# Altium footprint library STM32G4_DRV8301_hardware.PcbLib: 61 footprints (part 2 of 4)
Each footprint in its own frame and in the unit in brackets; x right, y up, seen from the top. Pads: shape width x height; smd on the part's side, far side on the other; paste and mask are expansions set on the pad; w line width, h text height; cw(c..) or ccw(c..) is an arc to the next point about the centre after c.
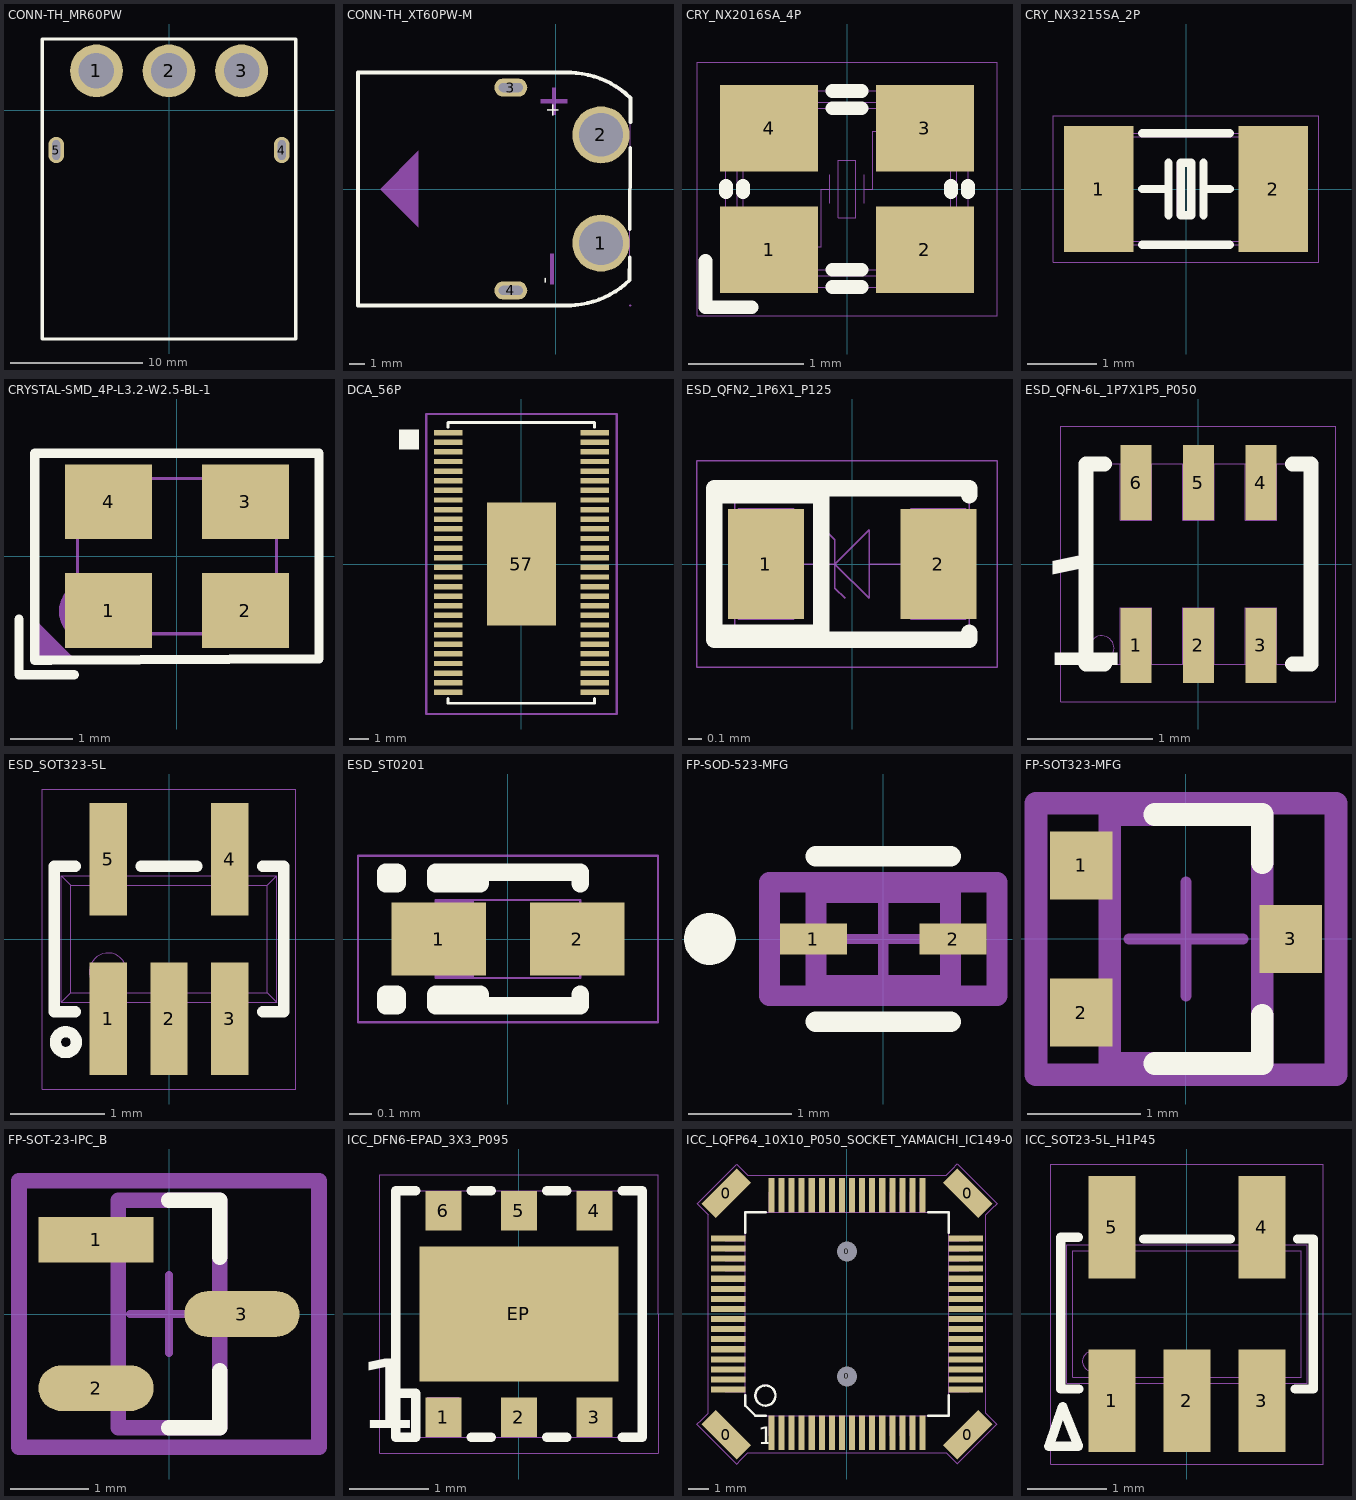
[diagram p1: the footprints below, top view; thin cyan lines are the x and y axes]

## CONN-TH_MR60PW [mm]
pads (5):
  round 4 hole 2.7: 1(-5.5,3) 2(0,3) 3(5.5,3)
  oval 1.2x2 hole 0.6 slot 1.5 at 90 deg: 4(8.55,-3) 5(-8.55,-3)
Top Overlay:
  lines w0.254: -9.6,2.864 -9.6,5.413 -9.398,5.413 9.6,5.413 9.6,3 9.6,-17.32 -9.6,-17.32 -9.6,3

## CONN-TH_XT60PW-M [mm]
pads (4):
  round 3.8 hole 2.9 paste-2539.97 mask+0.05: 1(3,-3.6) 2(3,3.6)
  oval 2.2x1.2 hole 0.6 slot 1.6 at 0 deg paste-2539.97 mask+0.05: 3(-3,6.75) 4(-3,-6.75)
Top Overlay:
  lines w0.254: 0.889,-7.747 ccw(c0.746,-1.749) 4.917,-6.062 ; 0.937,7.747 cw(c0.794,1.749) 4.965,6.062 4.956,4.441 ; 1,-7.75 -13.166,-7.75 -13.166,7.75 1,7.75 ; 4.902,-5.994 4.909,-4.544 ; 4.919,-2.676 4.947,2.738
  text "+" at 0.501,4.75 h1.5
  text "-" at -0.062,-6.299 h1.5
Mechanical 6:
  region: -0.381,-4.318 -0.127,-4.318 -0.127,-6.35 -0.381,-6.35
  region: -0.254,6.731 0,6.731 0,5.969 0.762,5.969 0.762,5.715 0,5.715 0,4.953 -0.254,4.953 -0.254,5.715 -1.016,5.715 -1.016,5.969 -0.254,5.969
  region: -9.144,2.54 -9.144,-2.54 -11.684,0
Mechanical 15:
  region: -2.4,-6.55 -2.4,-6.95 -3.6,-6.95 -3.6,-6.55
  region: -2.4,6.95 -2.4,6.55 -3.6,6.55 -3.6,6.95
  region: 4,-3.6 4,-3.468 3.932,-3.214 3.8,-2.986 3.614,-2.8 3.386,-2.668 3.132,-2.6 2.868,-2.6 2.614,-2.668 2.386,-2.8 2.2,-2.986 2.068,-3.214 2,-3.468 2,-3.6 2,-3.732 2.068,-3.986 2.2,-4.214 2.386,-4.4 2.614,-4.532 2.868,-4.6 3.132,-4.6 3.386,-4.532 3.614,-4.4 3.8,-4.214 3.932,-3.986 4,-3.732
  region: 4,3.6 4,3.732 3.932,3.986 3.8,4.214 3.614,4.4 3.386,4.532 3.132,4.6 2.868,4.6 2.614,4.532 2.386,4.4 2.2,4.214 2.068,3.986 2,3.732 2,3.6 2,3.468 2.068,3.214 2.2,2.986 2.386,2.8 2.614,2.668 2.868,2.6 3.132,2.6 3.386,2.668 3.614,2.8 3.8,2.986 3.932,3.214 4,3.468
  region: 5.013,-7.747 5.012,-7.723 4.977,-7.69 4.929,-7.69 4.894,-7.723 4.893,-7.747 4.894,-7.771 4.929,-7.805 4.977,-7.805 5.012,-7.771
  lines w0.051: -13.166,-7.747 -13.166,7.747 1.016,7.747 1.778,7.62 2.794,7.366 3.81,6.858 4.826,6.096 4.953,5.969 4.902,-5.994 4.699,-6.223 3.937,-6.858 3.175,-7.239 2.159,-7.493 1.143,-7.747 -13.166,-7.747

## CRY_NX2016SA_4P [mm]
pads (4):
  rect 0.85x0.75 smd mask+0.05: 1(-0.675,-0.525) 2(0.675,-0.525) 3(0.675,0.525) 4(-0.675,0.525)
Top Overlay:
  lines w0.12: -1.225,-0.625 -1.225,-1.025 -0.825,-1.025 ; -1.05,-0.025 -1.05,0.025 ; -0.9,-0.025 -0.9,0.025 ; -0.125,-0.85 0.125,-0.85 ; -0.125,-0.7 0.125,-0.7 ; -0.125,0.7 0.125,0.7 ; -0.125,0.85 0.125,0.85 ; 0.9,-0.025 0.9,0.025 ; 1.05,-0.025 1.05,0.025
Mechanical 14:
  lines w0.01: -0.9,-0.25 -0.35,-0.25 -0.35,-0.7 ; -0.9,0.25 -0.35,0.25 -0.35,0.7 ; -0.325,-0.5 -0.225,-0.5 -0.225,0 -0.15,0 ; -0.15,-0.125 -0.15,0.125 ; 0.15,-0.125 0.15,0.125 ; 0.15,0 0.225,0 0.225,0.5 0.325,0.5 ; 0.35,-0.7 0.35,-0.25 0.9,-0.25 ; 0.35,0.7 0.35,0.25 0.9,0.25 ; -1.05,-0.7 cw(c-1.05,-0.85) -0.9,-0.85 0.9,-0.85 cw(c1.05,-0.85) 1.05,-0.7 1.05,0.7 cw(c1.05,0.85) 0.9,0.85 -0.9,0.85 cw(c-1.05,0.85) -1.05,0.7 -1.05,-0.7 ; -0.95,-0.6 ccw(c-0.8,-0.6) -0.8,-0.75 0.8,-0.75 ccw(c0.8,-0.6) 0.95,-0.6 0.95,0.6 ccw(c0.8,0.6) 0.8,0.75 -0.8,0.75 ccw(c-0.8,0.6) -0.95,0.6 -0.95,-0.6 ; -0.9,-0.6 ccw(c-0.8,-0.6) -0.8,-0.7 0.8,-0.7 ccw(c0.8,-0.6) 0.9,-0.6 0.9,0.6 ccw(c0.8,0.6) 0.8,0.7 -0.8,0.7 ccw(c-0.8,0.6) -0.9,0.6 -0.9,-0.6 ; -0.075,-0.25 0.075,-0.25 0.075,0.25 -0.075,0.25 -0.075,-0.25
  text "'.Designator'" at -0.885,-2 h1.5
  text "4" at -0.75,0.325 h1.5
  text "3" at 0.525,0.325 h1.5
  text "2" at 0.525,-0.65 h1.5
  text "1" at -0.725,-0.65 h1.5
Mechanical 16:
  lines w0.01: -1.3,-1.1 -1.3,1.1 1.3,1.1 1.3,-1.1 -1.3,-1.1
3D body: height 0.5, standoff 0, extent -1.05,-0.85 1.05,0.85
3D body: height 0.51, standoff 0.5, extent -0.9,-0.7 -0.575,-0.375
3D body "NX2016.STEP": height 0.7, standoff 0, extent -1,-0.8 1,0.8

## CRY_NX3215SA_2P [mm]
pads (2):
  rect 1x1.8 smd mask+0.05: 1(-1.25,0) 2(1.25,0)
Top Overlay:
  lines w0.12: -0.625,-0.8 0.625,-0.8 ; -0.625,0 -0.25,0 ; -0.625,0.8 0.625,0.8 ; -0.25,-0.375 -0.25,0.375 ; 0.25,-0.375 0.25,0.375 ; 0.25,0 0.625,0 ; -0.075,-0.375 0.075,-0.375 0.075,0.375 -0.075,0.375 -0.075,-0.375
Mechanical 14:
  lines w0.01: -0.625,0 -0.25,0 ; -0.25,-0.375 -0.25,0.375 ; 0.25,-0.375 0.25,0.375 ; 0.25,0 0.625,0 ; -1.6,0.625 cw(c-1.475,0.625) -1.475,0.75 1.475,0.75 cw(c1.475,0.625) 1.6,0.625 1.6,-0.625 ; -1.6,0.625 -1.6,0.625 ; -1.6,0.625 -1.6,-0.625 ccw(c-1.475,-0.625) -1.475,-0.75 1.475,-0.75 ccw(c1.475,-0.625) 1.6,-0.625 ; 1.6,-0.625 1.6,-0.625 ; -1.65,-0.7 -1.55,-0.8 1.55,-0.8 1.65,-0.7 1.65,0.7 1.55,0.8 -1.55,0.8 -1.65,0.7 -1.65,-0.7 ; -0.125,-0.375 -0.125,0.375 0.125,0.375 0.125,-0.375 -0.125,-0.375
  text "'.Designator'" at -2,0 h1.5
Mechanical 16:
  lines w0.01: -1.9,-1.05 -1.9,1.05 1.9,1.05 1.9,-1.05 -1.9,-1.05
3D body "NX3215SA.STEP": height 0.78, standoff 0, extent -1.507,-0.73 1.507,0.784
3D body: height 0.9, standoff 0, extent -1.655,-0.805 1.655,0.805

## CRYSTAL-SMD_4P-L3.2-W2.5-BL-1 [mm]
pads (4):
  rect 1.4x1.2 smd: 1(-1.1,-0.875) 2(1.1,-0.875) 3(1.1,0.875) 4(-1.1,0.875)
Top Overlay:
  lines w0.152: -2.54,-1.016 -2.54,-1.778 -2.54,-1.905 -1.651,-1.905 ; -2.286,-1.679 -2.03,-1.679 2.286,-1.651 2.286,0 2.286,1.651 -2.286,1.651 -2.286,-1.679
Mechanical 6:
  circle w0.5: c-1.397,-0.889 r0.25
  region: -2.286,-1.016 -2.286,-1.651 -1.651,-1.651
Mechanical 15:
  region: 0.45,-0.35 1.5,-0.35 1.5,-1.15 0.45,-1.15
  region: -1.5,-0.35 -0.45,-0.35 -0.45,-1.15 -1.5,-1.15
  region: -1.5,1.15 -0.45,1.15 -0.45,0.35 -1.5,0.35
  region: 0.45,1.15 1.5,1.15 1.5,0.35 0.45,0.35
  region: -1.54,-1.25 -1.541,-1.226 -1.576,-1.193 -1.624,-1.193 -1.659,-1.226 -1.66,-1.25 -1.659,-1.274 -1.624,-1.307 -1.576,-1.307 -1.541,-1.274
  lines w0.051: -1.6,-1.25 -1.6,1.25 1.6,1.25 1.6,-1.25 -1.6,-1.25

## DCA_56P [mil]
pads (57):
  rect 58x11 smd mask+2: 1(-150.08,268.98) 2(-150.08,249.3) 3(-150.08,229.61) 4(-150.08,209.91) 5(-150.08,190.21) 6(-150.08,170.51) 7(-150.08,150.81) 8(-150.08,131.11) 9(-150.08,111.41) 10(-150.08,91.71) 11(-150.08,72.01) 12(-150.08,52.31) 13(-150.08,32.61) 14(-150.08,12.91) 15(-150.08,-6.79) 16(-150.08,-26.49) 17(-150.08,-46.19) 18(-150.08,-65.89) 19(-150.08,-85.59) 20(-150.08,-105.29) 21(-150.08,-124.99) 22(-150.08,-144.69) 23(-150.08,-164.39) 24(-150.08,-184.09) 25(-150.08,-203.79) 26(-150.08,-223.49) 27(-150.08,-243.17) 28(-150.08,-262.86) 29(149.92,-262.86) 30(149.92,-243.17) 31(149.92,-223.49) 32(149.92,-203.79) 33(149.92,-184.09) 34(149.92,-164.39) 35(149.92,-144.69) 36(149.92,-124.99) 37(149.92,-105.29) 38(149.92,-85.59) 39(149.92,-65.89) 40(149.92,-46.19) 41(149.92,-26.49) 42(149.92,-6.79) 43(149.92,12.91) 44(149.92,32.61) 45(149.92,52.31) 46(149.92,72.01) 47(149.92,91.71) 48(149.92,111.41) 49(149.92,131.11) 50(149.92,150.81) 51(149.92,170.51) 52(149.92,190.21) 53(149.92,209.91) 54(149.92,229.61) 55(149.92,249.3) 56(149.92,268.98)
  rect 141.73x251.97 smd: 57(0.02,0.01)
Top Overlay:
  region: -250,235 -210,235 -210,275 -250,275
  lines w5.91: -150,-275 -150,-285 150,-285 150,-275 ; -150,280 -150,290 150,290 150,280
Mechanical 5:
  lines w5: -195.08,-307.09 -195.08,307.09 ; -195,-307.05 195,-307.05 ; -195,307.13 195,307.13 ; 195.08,-307.09 195.08,307.09
  text ".Designator" at -73,-20 h59.06
  text "*" at -109.45,295.67 h59.06

## ESD_QFN2_1P6X1_P125 [mm]
pads (2):
  rect 0.55x0.8 smd mask+0.05: 1(-0.625,0) 2(0.625,0)
Top Overlay:
  lines w0.12: -1,-0.5 -0.85,-0.5 ; -1,0.5 -0.85,0.5 ; -0.825,-0.55 -1,-0.55 -1,0.55 -0.85,0.55 ; -0.225,-0.55 -0.225,0.55 ; -0.225,-0.5 -0.85,-0.5 ; -0.225,0.475 -0.25,0.5 -0.85,0.5 ; 0.85,-0.5 0.85,-0.55 -0.85,-0.55 -0.85,-0.5 ; 0.85,0.5 0.85,0.55 -0.85,0.55 ; -0.85,0.5 -0.85,0.55
Mechanical 14:
  lines w0.01: -0.4,0 -0.125,0 ; -0.2,0.25 -0.125,0.175 -0.125,-0.175 ; -0.05,-0.25 -0.125,-0.175 ; 0.125,0 0.4,0 ; -0.125,-0.175 -0.125,-0.175 ; -0.125,0 0.125,0.25 0.125,-0.25 ; -0.125,0 0.125,-0.25 ; -0.125,0 -0.125,0 ; 0.125,-0.25 0.125,-0.25 ; -0.85,-0.55 0.85,-0.55 0.85,0.55 -0.85,0.55 -0.85,-0.55 ; -0.825,-0.4 -0.825,0.4 -0.425,0.4 -0.425,-0.4 -0.825,-0.4 ; 0.425,-0.4 0.825,-0.4 0.825,0.4 0.425,0.4 0.425,-0.4
  text "'.Designator'" at -2.032,-0.508 h1.5
  text "2" at 0.325,-0.5 h1.5
  text "1" at -0.825,-0.475 h1.5
Mechanical 16:
  lines w0.01: -1.125,-0.75 -1.125,0.75 1.05,0.75 1.05,-0.75 -1.125,-0.75
3D body: height 0.61, standoff 0.6, extent -0.825,-0.2 -0.425,0.2
3D body: height 0.6, standoff 0, extent -0.855,-0.555 0.855,0.555

## ESD_QFN-6L_1P7X1P5_P050 [mm]
pads (6):
  rect 0.25x0.6 smd mask+0.05: 1(-0.5,-0.65) 2(0,-0.65) 3(0.5,-0.65) 4(0.5,0.65) 5(0,0.65) 6(-0.5,0.65)
Top Overlay:
  lines w0.12: -0.75,-0.8 -0.9,-0.8 -0.9,0.8 -0.75,0.8 ; 0.75,-0.8 0.9,-0.8 0.9,0.8 0.75,0.8
  text "1" at -1.3,-1.1 h1.5
Mechanical 14:
  circle w0.01: c-0.775,-0.675 r0.1
  lines w0.01: -0.625,-0.8 -0.625,-0.35 -0.375,-0.35 -0.375,-0.8 ; -0.625,0.8 -0.625,0.35 -0.375,0.35 -0.375,0.8 ; -0.125,-0.8 -0.125,-0.35 0.125,-0.35 0.125,-0.8 ; -0.125,0.8 -0.125,0.35 0.125,0.35 0.125,0.8 ; 0.375,-0.8 0.375,-0.35 0.625,-0.35 0.625,-0.8 ; 0.375,0.8 0.375,0.35 0.625,0.35 0.625,0.8 ; -0.9,-0.8 -0.9,0.8 0.9,0.8 0.9,-0.8 -0.9,-0.8
  text "1" at -0.575,-0.75 h1.5
  text "2" at -0.1,-0.75 h1.5
  text "3" at 0.4,-0.75 h1.5
  text "4" at 0.39,0.433 h1.5
  text "5" at -0.1,0.425 h1.5
  text "6" at -0.6,0.425 h1.5
  text "'.Designator'" at -2,-0.5 h1.5
Mechanical 16:
  lines w0.01: -1.1,-1.1 1.1,-1.1 1.1,1.1 -1.1,1.1 -1.1,-1.1
3D body: height 0.56, standoff 0.55, extent -0.724,-0.625 -0.425,-0.325
3D body: height 0.55, standoff 0, extent -0.9,-0.8 0.9,0.8

## ESD_SOT323-5L [mm]
pads (5):
  rect 0.4x1.2 smd mask+0.05: 1(-0.65,-0.85) 2(0,-0.85) 3(0.65,-0.85) 4(0.65,0.85) 5(-0.65,0.85)
Top Overlay:
  circle w0.12: c-1.1,-1.1 r0.112
  lines w0.12: -1,-0.775 -1.225,-0.775 -1.225,0.775 -1,0.775 ; -0.3,0.775 0.3,0.775 ; 1,-0.775 1.225,-0.775 1.225,0.775 1,0.775
Mechanical 14:
  circle w0.01: c-0.65,-0.35 r0.2
  lines w0.01: -0.75,-0.675 -0.75,-1.125 -0.55,-1.125 -0.55,-0.675 ; -0.75,0.675 -0.75,1.125 -0.55,1.125 -0.55,0.675 ; -0.1,-0.675 -0.1,-1.125 0.1,-1.125 0.1,-0.675 ; 0.55,-0.675 0.55,-1.125 0.75,-1.125 0.75,-0.675 ; 0.55,0.675 0.55,1.125 0.75,1.125 0.75,0.675 ; -1.15,-0.675 1.15,-0.675 ; -1.15,-0.675 -1.15,0.675 ; -1.15,-0.675 -1.05,-0.575 ; -1.15,0.675 1.15,0.675 ; -1.15,0.675 -1.05,0.575 ; -1.05,-0.575 1.05,-0.575 ; -1.05,-0.575 -1.05,0.575 ; -1.05,0.575 1.05,0.575 ; 1.05,-0.575 1.05,0.575 ; 1.05,-0.575 1.15,-0.675 ; 1.05,0.575 1.15,0.675 ; 1.15,-0.675 1.15,0.675
  text "'.Designator'" at -2,-0.5 h1.5
Mechanical 16:
  lines w0.01: -1.35,-1.6 -1.35,1.6 1.35,1.6 1.35,-1.6 -1.35,-1.6
3D body "SOT323-5L.STEP": height 1, standoff 0, extent -1.05,-1.051 1.05,1.051
3D body: height 1.1, standoff 0, extent -1.15,-0.675 1.15,0.675

## ESD_ST0201 [mm]
pads (2):
  rect 0.425x0.33 smd mask+0.05: 1(-0.312,0) 2(0.312,0)
Top Overlay:
  lines w0.08: -0.325,-0.275 -0.125,-0.275 ; -0.325,0.275 -0.125,0.275 ; -0.125,-0.3 -0.125,-0.25 -0.325,-0.25 -0.325,-0.3 0.325,-0.3 0.325,-0.25 ; -0.125,0.3 -0.125,0.25 -0.325,0.25 -0.325,0.3 0.325,0.3 0.325,0.25 ; -0.55,-0.3 -0.5,-0.3 -0.5,-0.25 -0.55,-0.25 -0.55,-0.3 ; -0.55,0.25 -0.55,0.3 -0.5,0.3 -0.5,0.25 -0.55,0.25
Mechanical 14:
  rectangle: -0.327,-0.175 -0.152,0.175
  lines w0.01: -0.325,-0.175 0.325,-0.175 0.325,0.175 -0.325,0.175 -0.325,-0.175
  text "K" at -0.575,-0.15 h1.5
  text "'.Designator'" at -1.645,-0.54 h1.5
Mechanical 16:
  lines w0.01: -0.675,-0.375 0.675,-0.375 0.675,0.375 -0.675,0.375 -0.675,-0.375
3D body "0201.STEP": height 0.34, standoff 0, extent -0.341,-0.165 0.339,0.165
3D body: height 0.33, standoff 0, extent -0.325,-0.175 0.325,0.175

## FP-SOD-523-MFG [mm]
pads (2):
  rect 0.65x0.3 smd paste+0 mask+0: 1(-0.675,0) 2(0.675,0)
Top Overlay:
  circle w0.25: c-1.675,0 r0.125
  lines w0.2: -0.65,-0.8 0.65,-0.8 ; -0.65,0.8 0.65,0.8
Top 3D Body:
  lines w0.2: -0.65,-0.45 -0.65,0.45 0.65,0.45 0.65,-0.45 -0.65,-0.45
Top Courtyard:
  lines w0.2: -1.1,-0.55 -1.1,0.55 1.1,0.55 1.1,-0.55 -1.1,-0.55
Top Assembly:
  lines w0.2: -1.1,-0.55 -1.1,0.55 1.1,0.55 1.1,-0.55 -1.1,-0.55
  text ".Designator" at 0,0.095 h1.5
Top Component Center:
  lines w0.1: -0.5,0 0.5,0 ; 0,-0.5 0,0.5
3D body "Diode_STMicroelectronics_BAT41KFILM_eec.STEP": height 0.7, standoff 0, extent -0.811,-0.406 0.789,0.394

## FP-SOT323-MFG [mm]
pads (3):
  rect 0.55x0.6 smd paste-1000 mask+0: 1(-0.925,0.65) 2(-0.925,-0.65) 3(0.925,0)
Top Overlay:
  lines w0.2: -0.275,-1.1 0.675,-1.1 0.675,-0.675 ; -0.275,1.1 0.675,1.1 0.675,0.675
Top Paste:
  rectangle: -1.2,0.4 -0.65,0.9
  rectangle: -1.2,-0.9 -0.65,-0.4
  rectangle: 0.65,-0.25 1.2,0.25
Top 3D Body:
  lines w0.2: -0.675,-1.1 0.675,-1.1 0.675,1.1 -0.675,1.1 -0.675,-1.1
Top Courtyard:
  lines w0.2: -1.325,-1.2 1.325,-1.2 1.325,1.2 -1.325,1.2 -1.325,-1.2
Top Assembly:
  lines w0.2: -1.325,-1.2 1.325,-1.2 1.325,1.2 -1.325,1.2 -1.325,-1.2
  text ".Designator" at 0,0.095 h1.5
Top Component Center:
  lines w0.1: -0.5,0 0.5,0 ; 0,-0.5 0,0.5
3D body "Diode_Nexperia_PESD1CAN-UX_eec.STEP": height 1.13, standoff 0, extent -1.075,-1.037 1.075,1.062

## FP-SOT-23-IPC_B [mm]
pads (3):
  rect 1.474x0.585 smd paste+0 mask+0: 1(-0.935,0.95)
  rrect100% 1.474x0.585 smd paste+0 mask+0: 2(-0.935,-0.95) 3(0.935,0)
Top Overlay:
  lines w0.2: 0,-1.46 0.65,-1.46 0.65,-0.73 ; 0,1.46 0.65,1.46 0.65,0.73
Top 3D Body:
  lines w0.2: -0.65,-1.46 -0.65,1.46 0.65,1.46 0.65,-1.46 -0.65,-1.46
Top Courtyard:
  lines w0.2: -1.922,-1.71 -1.922,1.71 1.922,1.71 1.922,-1.71 -1.922,-1.71
Top Assembly:
  lines w0.2: -1.922,-1.71 -1.922,1.71 1.922,1.71 1.922,-1.71 -1.922,-1.71
  text ".Designator" at 0,0.095 h1.5
Top Component Center:
  lines w0.1: -0.5,0 0.5,0 ; 0,-0.5 0,0.5
3D body "Diode_Micro_Commercial_Co_ESDA6V1L-TP_eec.STEP": height 1.25, standoff 0, extent -1.197,-1.46 1.197,1.46

## ICC_DFN6-EPAD_3X3_P095 [mm]
pads (7):
  rect 0.45x0.5 smd mask+0.05: 1(-0.95,-1.3) 2(0,-1.3) 3(0.95,-1.3) 4(0.95,1.3) 5(0,1.3) 6(-0.95,1.3)
  rect 2.5x1.7 smd mask+0.05: EP(0,0)
Top Overlay:
  lines w0.12: -1.55,-1 -1.3,-1 -1.3,-1.55 -1.55,-1.55 -1.55,1.55 -1.3,1.55 ; -0.6,-1.55 -0.35,-1.55 ; -0.6,1.55 -0.35,1.55 ; 0.35,-1.55 0.6,-1.55 ; 0.35,1.55 0.6,1.55 ; 1.3,-1.55 1.55,-1.55 1.55,1.55 1.3,1.55
  text "1" at -2.025,-1.725 h1.5
Mechanical 14:
  lines w0.01: -1.55,-1.55 1.55,-1.55 1.55,1.55 -1.55,1.55 -1.55,-1.55 ; -1.15,-1.45 -1.15,-1.05 -0.75,-1.05 -0.75,-1.45 -1.15,-1.45
  text "'.Designator'" at -2,-0.5 h1.5
Mechanical 16:
  lines w0.01: -1.75,-1.75 1.75,-1.75 1.75,1.75 -1.75,1.75 -1.75,-1.75
3D body "DFN6-EPAD_3X3_P095.STEP": height 0.8, standoff 0, extent -1.5,-1.55 1.5,1.55
3D body: height 1, standoff 0, extent -1.55,-1.55 1.55,1.55

## ICC_LQFP64_10X10_P050_SOCKET_YAMAICHI_IC149-064-069-B5_NM [mm]
pads (70):
  rect 1x2.5 smd rot 45 mask+0.05: 0(-6,-6) 0(6,6)
  rect 1x2.5 smd rot 135 mask+0.05: 0(-6,6) 0(6,-6)
  round 0.5 hole 1 unplated mask+0.05: 0(0,-3.1) 0(0,3.1)
  rect 0.3x1.7 smd mask+0.05: 1(-3.75,-5.9) 2(-3.25,-5.9) 3(-2.75,-5.9) 4(-2.25,-5.9) 5(-1.75,-5.9) 6(-1.25,-5.9) 7(-0.75,-5.9) 8(-0.25,-5.9) 9(0.25,-5.9) 10(0.75,-5.9) 11(1.25,-5.9) 12(1.75,-5.9) 13(2.25,-5.9) 14(2.75,-5.9) 15(3.25,-5.9) 16(3.75,-5.9) 33(3.75,5.9) 34(3.25,5.9) 35(2.75,5.9) 36(2.25,5.9) 37(1.75,5.9) 38(1.25,5.9) 39(0.75,5.9) 40(0.25,5.9) 41(-0.25,5.9) 42(-0.75,5.9) 43(-1.25,5.9) 44(-1.75,5.9) 45(-2.25,5.9) 46(-2.75,5.9) 47(-3.25,5.9) 48(-3.75,5.9)
  rect 1.7x0.3 smd mask+0.05: 17(5.9,-3.75) 18(5.9,-3.25) 19(5.9,-2.75) 20(5.9,-2.25) 21(5.9,-1.75) 22(5.9,-1.25) 23(5.9,-0.75) 24(5.9,-0.25) 25(5.9,0.25) 26(5.9,0.75) 27(5.9,1.25) 28(5.9,1.75) 29(5.9,2.25) 30(5.9,2.75) 31(5.9,3.25) 32(5.9,3.75) 49(-5.9,3.75) 50(-5.9,3.25) 51(-5.9,2.75) 52(-5.9,2.25) 53(-5.9,1.75) 54(-5.9,1.25) 55(-5.9,0.75) 56(-5.9,0.25) 57(-5.9,-0.25) 58(-5.9,-0.75) 59(-5.9,-1.25) 60(-5.9,-1.75) 61(-5.9,-2.25) 62(-5.9,-2.75) 63(-5.9,-3.25) 64(-5.9,-3.75)
Top Overlay:
  circle w0.12: c-4.05,-4.05 r0.5
  lines w0.12: -5.05,-4.025 -5.05,-4.55 -4.55,-5.05 -4.025,-5.05 ; -5.05,4.025 -5.05,5.05 -4.025,5.05 ; 4.025,-5.05 5.05,-5.05 5.05,-4.025 ; 4.025,5.05 5.05,5.05 5.05,4.025
  text "1" at -4.4,-6.775 h1.5
Mechanical 14:
  drawing of 198 lines, arcs and shapes, not listed
  text "'.Designator'" at -2,-0.5 h1.5
  text "1" at -3.95,-6.9 h1.5
  text "16" at 3.275,-6.875 h1.5
  text "17" at 6.95,-4.275 h1.5
  text "32" at 6.9,3.2 h1.5
  text "33" at 4.3,6.925 h1.5
  text "48" at -3.15,6.9 h1.5
  text "49" at -6.925,4.325 h1.5
  text "64" at -6.925,-3.175 h1.5
Mechanical 16:
  lines w0.01: 5.475,-7.45 7.275,-5.65 ; 5.475,-7.45 5.475,-7.45 ; 5.475,-7.45 5.25,-7.225 4.925,-6.9 -4.925,-6.9 -5.25,-7.225 -5.475,-7.45 -7.45,-5.475 -7.225,-5.25 -6.9,-4.925 -6.9,4.925 -7.225,5.25 -7.45,5.475 -5.7,7.225 -5.475,7.45 -5.25,7.225 -4.925,6.9 4.925,6.9 5.25,7.225 5.475,7.45 7.45,5.475 7.225,5.25 6.9,4.925 6.9,-4.925 7.225,-5.25 7.45,-5.475 7.275,-5.65 ; 7.275,-5.65 7.275,-5.65
3D body "LQFP64_10X10_P050.STEP": height 1.56, standoff 0, extent -6,-6 6,6
3D body: height 1.6, standoff 0, extent -5.05,-5.05 5.05,5.05

## ICC_SOT23-5L_H1P45 [mm]
pads (5):
  rect 0.6x1.3 smd mask+0.05: 1(-0.95,-1.1) 2(0,-1.1) 3(0.95,-1.1) 4(0.95,1.1) 5(-0.95,1.1)
Top Overlay:
  lines w0.12: -1.375,0.975 -1.6,0.975 -1.6,-0.95 -1.372,-0.95 ; -0.55,0.95 0.55,0.95 ; 1.372,-0.95 1.6,-0.95 1.6,0.95 1.4,0.95 ; -1.75,-1.675 -1.575,-1.175 -1.375,-1.675 -1.75,-1.675
Mechanical 14:
  circle w0.01: c-1.2,-0.6 r0.125
  lines w0.01: -1.15,-0.875 -1.15,-1.5 -0.75,-1.5 -0.75,-0.875 ; -1.15,0.875 -1.15,1.5 -0.75,1.5 -0.75,0.875 ; -0.2,-0.875 -0.2,-1.5 0.2,-1.5 0.2,-0.875 ; 0.75,-0.875 0.75,-1.5 1.15,-1.5 1.15,-0.875 ; 0.75,0.875 0.75,1.5 1.15,1.5 1.15,0.875 ; -1.525,-0.875 -1.525,0.875 1.525,0.875 1.525,-0.875 -1.525,-0.875 ; -1.45,-0.8 1.45,-0.8 1.45,0.8 -1.45,0.8 -1.45,-0.8
  text "'.Designator'" at -2,-0.5 h1.5
Mechanical 16:
  lines w0.01: -1.725,-1.9 -1.725,1.9 1.725,1.9 1.725,-1.9 -1.725,-1.9
3D body "SOT23-5L.STEP": height 1.1, standoff 0, extent -1.5,-1.25 1.5,1.25
3D body: height 1.45, standoff 0, extent -1.524,-0.874 1.524,0.874